# Altium schematic symbol library SCH - OPAMP - LMP8481MM-T_NOPB.Schlib: 1 symbol
Pins are listed as number, name and electrical type; pins without a type are passive.

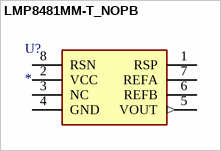
[diagram p0: symbol LMP8481MM-T_NOPB]

## LMP8481MM-T_NOPB
designator U?
Integrated Circuit
pins: 1 RSP, 2 VCC, 3 NC, 4 GND, 5 VOUT (out), 6 REFB, 7 REFA, 8 RSN